# EAGLE library part ESP8266_PROGRAMMER (library gone)
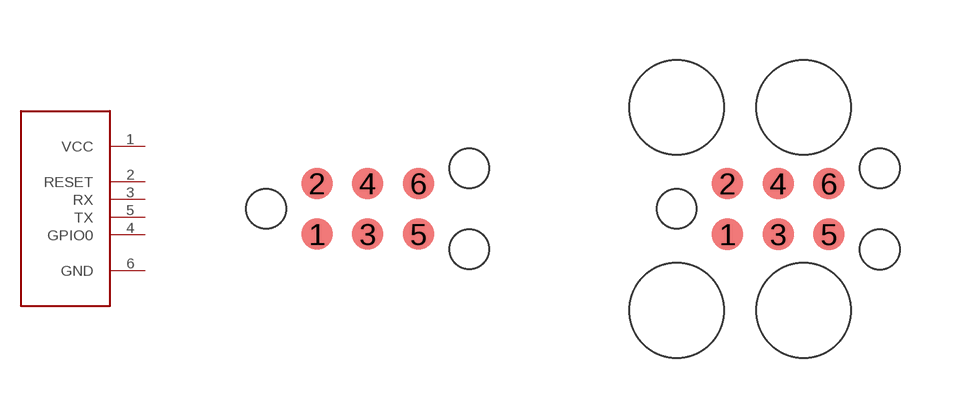
[diagram p7: symbol with the pads of TC2030-IDC-NL; footprints TC2030-IDC-NL, TC2030-IDC]

Designator prefix -

## ESP8266_PROGRAMMER  [TC2030-IDC-NL]
1  VCC
2  RESET
3  RX
4  GPIO0
5  TX
6  GND

## ESP8266_PROGRAMMERHOLES  [TC2030-IDC]
Pads as for TC2030-IDC-NL

## Footprint TC2030-IDC-NL (pad centres in mm)
smd 0.787 x 0.787: 1 -1.27,-0.635; 2 -1.27,0.635; 3 0,-0.635; 4 0,0.635; 5 1.27,-0.635; 6 1.27,0.635
hole 0.991 at -2.54,0
hole 0.991 at 2.54,1.016
hole 0.991 at 2.54,-1.016

## Footprint TC2030-IDC (pad centres in mm)
smd 0.787 x 0.787: 1 -1.27,-0.635; 2 -1.27,0.635; 3 0,-0.635; 4 0,0.635; 5 1.27,-0.635; 6 1.27,0.635
hole 0.991 at -2.54,0
hole 0.991 at 2.54,1.016
hole 0.991 at 2.54,-1.016
hole 2.375 at -2.54,2.54
hole 2.375 at -2.54,-2.54
hole 2.375 at 0.635,2.54
hole 2.375 at 0.635,-2.54